# Altium schematic symbol library Schlib1.SchLib: 13 symbols
Pins are listed as number, name and electrical type; pins without a type are passive.

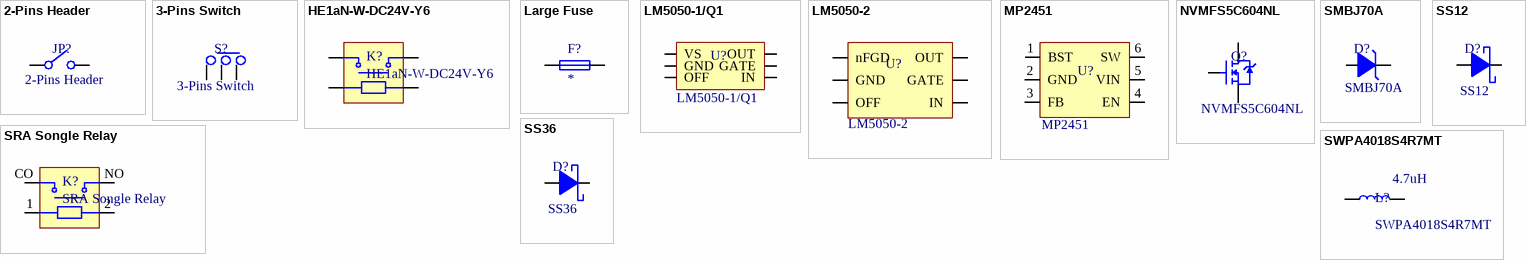
[diagram p0: symbols 2-Pins Header to SWPA4018S4R7MT]

## 2-Pins Header
designator JP?  Name: 2-Pins Header  (hidden comment: *)
footprint 2-Pins Header (2-Pins Header with plastic surrounded)
pins: 1, 2

## 3-Pins Switch
designator S?  Name: 3-Pins Switch
SS12d00G3; ComponentLink1Description: SS12d00G3; ComponentLink1URL: https://item.taobao.com/item.htm?spm=a1z09.2.0.0.42022e8dz0ovVy&id=522571770484&_u=133pjrv7231a
footprint 3-Pins Switch (SS12d00G3)
pins: 1, 2, 3

## HE1aN-W-DC24V-Y6
designator K?
90A Relay; ComponentLink1Description: HE1aN-W-DC24V-Y6; ComponentLink1URL: https://www.mouser.com/ds/2/315/mech_eng_hepv-1075638.pdf
footprint HE1aN-W-DC24V-Y6 (Electro-mechanical relay)
pins: Coil1, Coil2, Relay1, Relay2

## Large Fuse
designator F?
Large size fuse
footprint Fuse (NOT FINIALIZED)
pins: 1, 2

## LM5050-1/Q1
designator U?  Name: LM5050-1/Q1
High-Side OR-ing FET Controller; ComponentLink1Description: LM5050-1/-Q1; ComponentLink1URL: http://www.ti.com/lit/ds/symlink/lm5050-1-q1.pdf
footprint SOT23-6
pins: 1 VS, 2 GND, 3 OFF, 4 IN, 5 GATE, 6 OUT

## LM5050-2
designator U?  Name: LM5050-2
High-Side OR-ing FET Controller; ComponentLink1Description: LM5050-2; ComponentLink1URL: http://www.ti.com/lit/ds/symlink/lm5050-2.pdf
footprint SOT23-6
pins: 1 nFGD, 2 GND, 3 OFF, 4 IN, 5 GATE, 6 OUT

## MP2451
designator U?  Name: MP2451
Step-Down Converter ; 36V ; 2MHz ; 0.6A; ComponentLink1Description: MP2451; ComponentLink1URL: https://www.mouser.com/ds/2/277/MP2451_r1.33-477967.pdf
footprint SOT23-6
pins: 1 BST, 2 GND, 3 FB, 4 EN, 5 VIN, 6 SW

## NVMFS5C604NL
designator Q?  Name: NVMFS5C604NL
Power MOSFET ; 60 V ; 1.2 mR ; 287A ; Single N−Channel; ComponentLink1Description: NVMFS5C604NL; ComponentLink1URL: http://www.onsemi.cn/PowerSolutions/document/NVMFS5C604NL-D.PDF
footprint NVMFS5C604NL (Power MOSFET ; 60 V ; 1.2 mR ; 287A ; Single N-Channel)
pins: D, G, S

## SMBJ70A
designator D?  Name: SMBJ70A  (hidden comment: *)
Transient Voltage Suppression Diodes; ComponentLink1Description: SMBJ70A; ComponentLink1URL: http://www.littelfuse.com/~/media/electronics/datasheets/tvs_diodes/littelfuse_tvs_diode_smbj_datasheet.pdf.pdf; ComponentLink2Description: SMBJ70A_TaoBao; ComponentLink2URL: https://item.taobao.com/item.htm?spm=a230r.1.14.18.167673edhP2qwe&id=564794336232&ns=1&abbucket=13#detail
footprint SMB (DO-214AA)
pins: A, K

## SRA Songle Relay
designator K?
20A Relay; ComponentLink1Description: SRA Songle Relay; ComponentLink1URL: https://www.rlocman.ru/i/File/2018/02/21/SRA--T74-.pdf
footprint SRA Songle Relay (Songle Relay ; SRA ; 5 pins ; 20A)
pins: 1 Coil1, 2 Coil2, CO Relay1, NO Relay2

## SS12
designator D?  Name: SS12  (hidden comment: *)
Surface Mount Schottky Barrier Rectifier; ComponentLink1Description: SS12; ComponentLink1URL: https://www.vishay.com/docs/88746/ss12.pdf; ComponentLink2Description: SS12_TaoBao; ComponentLink2URL: https://item.taobao.com/item.htm?spm=a1z10.3-c-s.w4002-16569462289.23.52e96a4bPeluV8&id=545464510804
footprint SMA (DO-214AC)
pins: A, K

## SS36
designator D?  Name: SS36  (hidden comment: *)
Surface Mount Schottky Barrier Rectifier; ComponentLink1Description: SS36; ComponentLink1URL: https://www.vishay.com/docs/88751/ss32.pdf; ComponentLink2Description: SS36_TaoBao; ComponentLink2URL: https://item.taobao.com/item.htm?spm=a1z0d.7625083.1998302264.6.686c4e69YVpoGp&id=545485003984
footprint SMA (DO-214AC)
pins: A, K

## SWPA4018S4R7MT
designator L?  value 4.7uH
Wire Wound SMD Power Inductor ; 4.7uH ; 1.7A; ComponentLink1Description: SWPA4018S4R7MT; ComponentLink1URL: https://www.datasheets360.com/pdf/-5671755628400742870
simulation model INDUCTOR (Inductor)
signal-integrity model Inductor
footprint SWPA4018S4R7MT (Wire Wound SMD Power Inductor ; 4.7uH ; 1.7A)
pins: 1, 2